# Altium footprint library USON-10(2.0X1.0).PcbLib: 1 footprints
Each footprint in its own frame and in the unit in brackets; x right, y up, seen from the top. Pads: shape width x height; smd on the part's side, far side on the other; paste and mask are expansions set on the pad; w line width, h text height; cw(c..) or ccw(c..) is an arc to the next point about the centre after c.
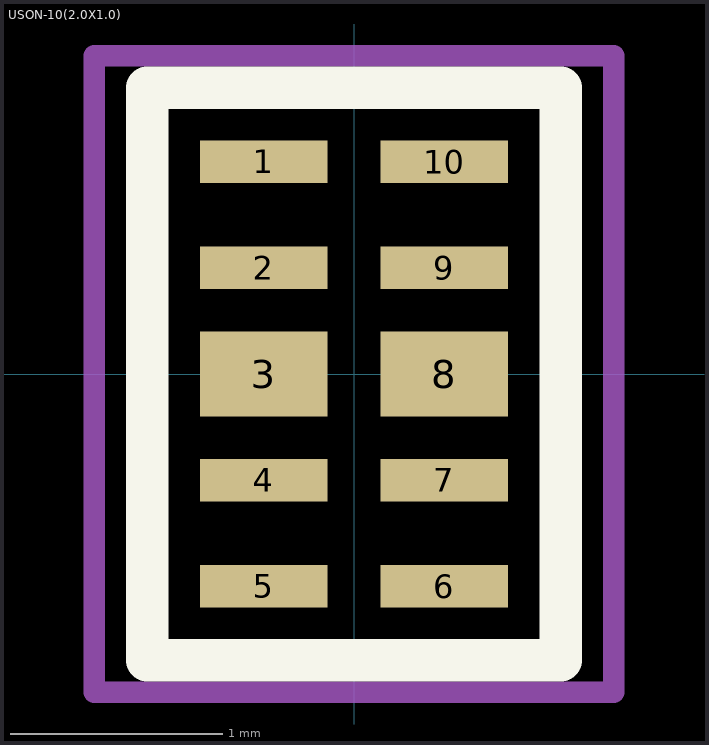
[diagram p0: the footprint, top view; thin cyan lines are the x and y axes]

## USON-10(2.0X1.0) [mm]
pads (10):
  rect 0.6x0.2 smd: 1(-0.425,1) 2(-0.425,0.5) 4(-0.425,-0.5) 5(-0.425,-1) 6(0.425,-1) 7(0.425,-0.5) 9(0.425,0.5) 10(0.425,1)
  rect 0.6x0.4 smd: 3(-0.425,0) 8(0.425,0)
Top Overlay:
  lines w0.2: -0.975,-1.35 -0.975,1.35 0.975,1.35 0.975,-1.35 -0.975,-1.35
Top Courtyard:
  lines w0.1: -1.225,-1.5 1.225,-1.5 1.225,1.5 -1.225,1.5 -1.225,-1.5
3D body "TPD4E05U06QDQARQ1.STEP": height 0.55, standoff 0, extent -0.5,-1.25 0.5,1.25